# EAGLE library part SF2_M2S010TQ144 (library smf2)
Smart Fusion SoC Dokumente <https://www.microsemi.com/product-directory/soc-fpgas/1692-smartfusion2#documentation> Pin Out TQ144 <https://www.microsemi.com/document-portal/doc_download/133134-smartfusion2-tq144-pinouts>
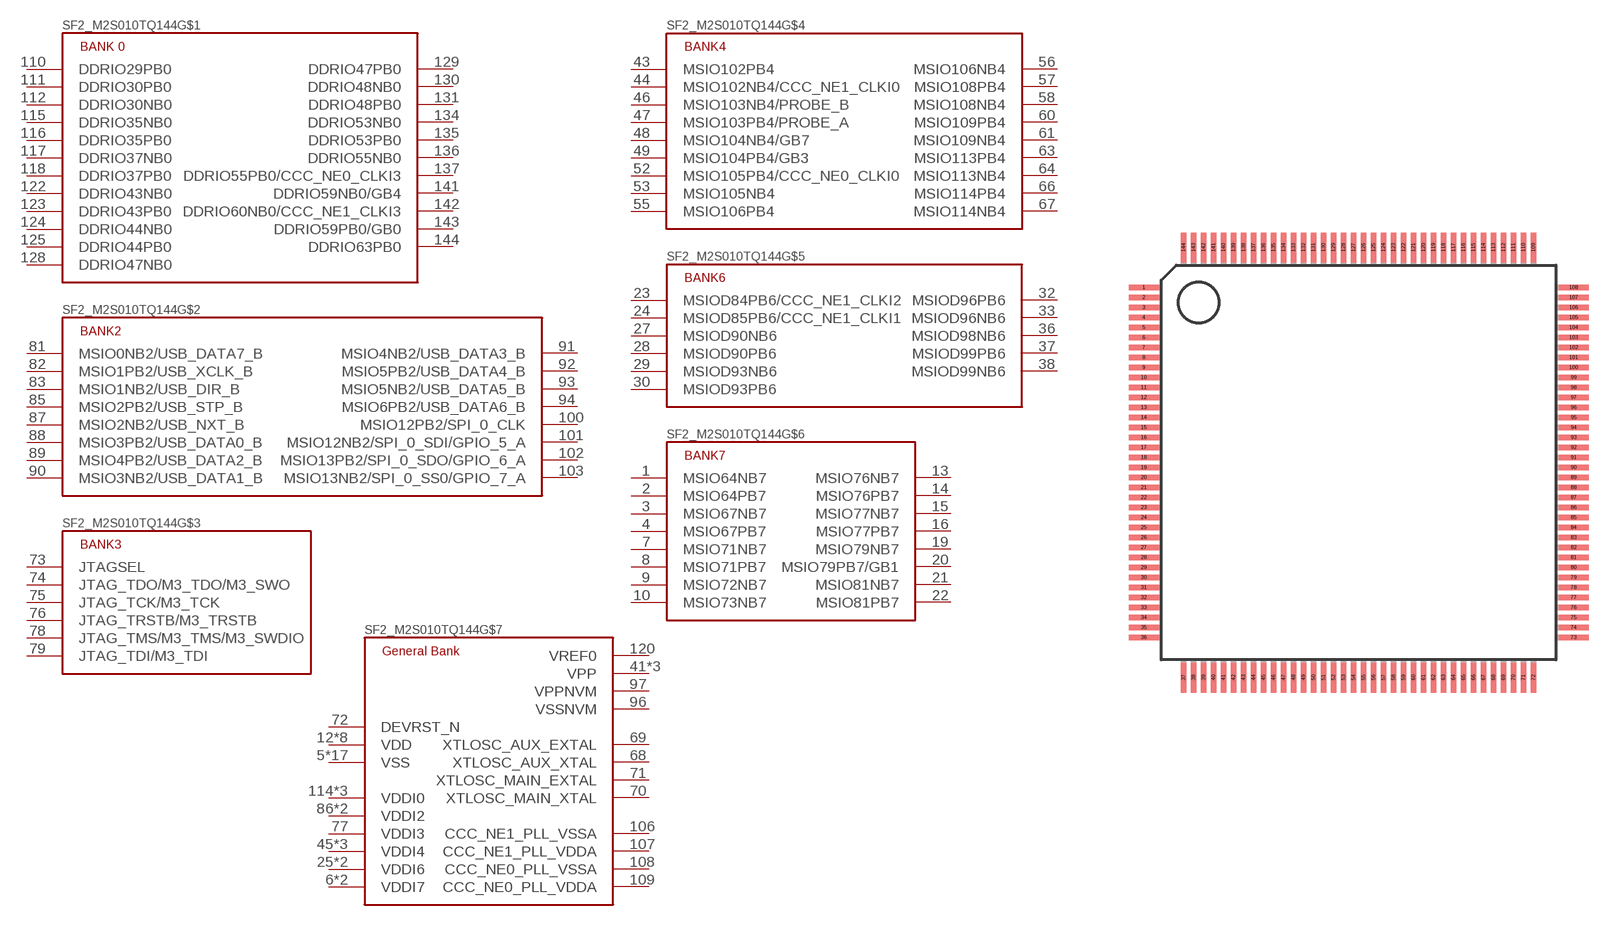
[diagram p3: symbol with the pads of TQFP144; footprint TQFP144]

Designator prefix SF2_M2S010TQ144; gates G$1=SF2_BANK0 G$2=SF2_BANK2 G$3=SF2_BANK3 G$4=SF2_BANK4 G$5=SF2_BANK6 G$6=SF2_BANK7 G$7=SF2_POWER

## SF2_M2S010TQ144  [TQFP144]
1  G$6:MSIO64NB7
2  G$6:MSIO64PB7
3  G$6:MSIO67NB7
4  G$6:MSIO67PB7
5  G$7:VSS
6  G$7:VDDI7
7  G$6:MSIO71NB7
8  G$6:MSIO71PB7
9  G$6:MSIO72NB7
10  G$6:MSIO73NB7
11  G$7:VSS
12  G$7:VDD
13  G$6:MSIO76NB7
14  G$6:MSIO76PB7
15  G$6:MSIO77NB7
16  G$6:MSIO77PB7
17  G$7:VDDI7
18  G$7:VSS
19  G$6:MSIO79NB7
20  G$6:MSIO79PB7/GB1
21  G$6:MSIO81NB7
22  G$6:MSIO81PB7
23  G$5:MSIOD84PB6/CCC_NE1_CLKI2
24  G$5:MSIOD85PB6/CCC_NE1_CLKI1
25  G$7:VDDI6
26  G$7:VSS
27  G$5:MSIOD90NB6
28  G$5:MSIOD90PB6
29  G$5:MSIOD93NB6
30  G$5:MSIOD93PB6
31  G$7:VDD
32  G$5:MSIOD96PB6
33  G$5:MSIOD96NB6
34  G$7:VSS
35  G$7:VDDI6
36  G$5:MSIOD98NB6
37  G$5:MSIOD99PB6
38  G$5:MSIOD99NB6
39  G$7:VDD
40  G$7:VSS
41  G$7:VPP
42  G$7:VSS
43  G$4:MSIO102PB4
44  G$4:MSIO102NB4/CCC_NE1_CLKI0
45  G$7:VDDI4
46  G$4:MSIO103NB4/PROBE_B
47  G$4:MSIO103PB4/PROBE_A
48  G$4:MSIO104NB4/GB7
49  G$4:MSIO104PB4/GB3
50  G$7:VDD
51  G$7:VSS
52  G$4:MSIO105PB4/CCC_NE0_CLKI0
53  G$4:MSIO105NB4
54  G$7:VDDI4
55  G$4:MSIO106PB4
56  G$4:MSIO106NB4
57  G$4:MSIO108PB4
58  G$4:MSIO108NB4
59  G$7:VSS
60  G$4:MSIO109PB4
61  G$4:MSIO109NB4
62  G$7:VDDI4
63  G$4:MSIO113PB4
64  G$4:MSIO113NB4
65  G$7:VSS
66  G$4:MSIO114PB4
67  G$4:MSIO114NB4
68  G$7:XTLOSC_AUX_XTAL
69  G$7:XTLOSC_AUX_EXTAL
70  G$7:XTLOSC_MAIN_XTAL
71  G$7:XTLOSC_MAIN_EXTAL
72  G$7:DEVRST_N
73  G$3:JTAGSEL
74  G$3:JTAG_TDO/M3_TDO/M3_SWO
75  G$3:JTAG_TCK/M3_TCK
76  G$3:JTAG_TRSTB/M3_TRSTB
77  G$7:VDDI3
78  G$3:JTAG_TMS/M3_TMS/M3_SWDIO
79  G$3:JTAG_TDI/M3_TDI
80  G$7:VPP
81  G$2:MSIO0NB2/USB_DATA7_B
82  G$2:MSIO1PB2/USB_XCLK_B
83  G$2:MSIO1NB2/USB_DIR_B
84  G$7:VSS
85  G$2:MSIO2PB2/USB_STP_B
86  G$7:VDDI2
87  G$2:MSIO2NB2/USB_NXT_B
88  G$2:MSIO3PB2/USB_DATA0_B
89  G$2:MSIO4PB2/USB_DATA2_B
90  G$2:MSIO3NB2/USB_DATA1_B
91  G$2:MSIO4NB2/USB_DATA3_B
92  G$2:MSIO5PB2/USB_DATA4_B
93  G$2:MSIO5NB2/USB_DATA5_B
94  G$2:MSIO6PB2/USB_DATA6_B
95  G$7:VDD
96  G$7:VSSNVM
97  G$7:VPPNVM
98  G$7:VSS
99  G$7:VDDI2
100  G$2:MSIO12PB2/SPI_0_CLK
101  G$2:MSIO12NB2/SPI_0_SDI/GPIO_5_A
102  G$2:MSIO13PB2/SPI_0_SDO/GPIO_6_A
103  G$2:MSIO13NB2/SPI_0_SS0/GPIO_7_A
104  G$7:VPP
105  G$7:VDD
106  G$7:CCC_NE1_PLL_VSSA
107  G$7:CCC_NE1_PLL_VDDA
108  G$7:CCC_NE0_PLL_VSSA
109  G$7:CCC_NE0_PLL_VDDA
110  G$1:DDRIO29PB0
111  G$1:DDRIO30PB0
112  G$1:DDRIO30NB0
113  G$7:VSS
114  G$7:VDDI0
115  G$1:DDRIO35NB0
116  G$1:DDRIO35PB0
117  G$1:DDRIO37NB0
118  G$1:DDRIO37PB0
119  G$7:VSS
120  G$7:VREF0
121  G$7:VDD
122  G$1:DDRIO43NB0
123  G$1:DDRIO43PB0
124  G$1:DDRIO44NB0
125  G$1:DDRIO44PB0
126  G$7:VSS
127  G$7:VDDI0
128  G$1:DDRIO47NB0
129  G$1:DDRIO47PB0
130  G$1:DDRIO48NB0
131  G$1:DDRIO48PB0
132  G$7:VSS
133  G$7:VDD
134  G$1:DDRIO53NB0
135  G$1:DDRIO53PB0
136  G$1:DDRIO55NB0
137  G$1:DDRIO55PB0/CCC_NE0_CLKI3
138  G$7:VDDI0
139  G$7:VSS
141  G$1:DDRIO59NB0/GB4
142  G$1:DDRIO60NB0/CCC_NE1_CLKI3
143  G$1:DDRIO59PB0/GB0
144  G$1:DDRIO63PB0

## Footprint TQFP144 (pad centres in mm)
smd 1.5 x 0.27: 1 -10.75,8.75; 2 -10.75,8.25; 3 -10.75,7.75; 4 -10.75,7.25; 5 -10.75,6.75; 6 -10.75,6.25; 7 -10.75,5.75; 8 -10.75,5.25; 9 -10.75,4.75; 10 -10.75,4.25; 11 -10.75,3.75; 12 -10.75,3.25; 13 -10.75,2.75; 14 -10.75,2.25; 15 -10.75,1.75; 16 -10.75,1.25; 17 -10.75,0.75; 18 -10.75,0.25; 19 -10.75,-0.25; 20 -10.75,-0.75; 21 -10.75,-1.25; 22 -10.75,-1.75; 23 -10.75,-2.25; 24 -10.75,-2.75; 25 -10.75,-3.25; 26 -10.75,-3.75; 27 -10.75,-4.25; 28 -10.75,-4.75; 29 -10.75,-5.25; 30 -10.75,-5.75; 31 -10.75,-6.25; 32 -10.75,-6.75; 33 -10.75,-7.25; 34 -10.75,-7.75; 35 -10.75,-8.25; 36 -10.75,-8.75; 73 10.75,-8.75; 74 10.75,-8.25; 75 10.75,-7.75; 76 10.75,-7.25; 77 10.75,-6.75; 78 10.75,-6.25; 79 10.75,-5.75; 80 10.75,-5.25; 81 10.75,-4.75; 82 10.75,-4.25; 83 10.75,-3.75; 84 10.75,-3.25; 85 10.75,-2.75; 86 10.75,-2.25; 87 10.75,-1.75; 88 10.75,-1.25; 89 10.75,-0.75; 90 10.75,-0.25; 91 10.75,0.25; 92 10.75,0.75; 93 10.75,1.25; 94 10.75,1.75; 95 10.75,2.25; 96 10.75,2.75; 97 10.75,3.25; 98 10.75,3.75; 99 10.75,4.25; 100 10.75,4.75; 101 10.75,5.25; 102 10.75,5.75; 103 10.75,6.25; 104 10.75,6.75; 105 10.75,7.25; 106 10.75,7.75; 107 10.75,8.25; 108 10.75,8.75
smd 0.27 x 1.5: 37 -8.75,-10.75; 38 -8.25,-10.75; 39 -7.75,-10.75; 40 -7.25,-10.75; 41 -6.75,-10.75; 42 -6.25,-10.75; 43 -5.75,-10.75; 44 -5.25,-10.75; 45 -4.75,-10.75; 46 -4.25,-10.75; 47 -3.75,-10.75; 48 -3.25,-10.75; 49 -2.75,-10.75; 50 -2.25,-10.75; 51 -1.75,-10.75; 52 -1.25,-10.75; 53 -0.75,-10.75; 54 -0.25,-10.75; 55 0.25,-10.75; 56 0.75,-10.75; 57 1.25,-10.75; 58 1.75,-10.75; 59 2.25,-10.75; 60 2.75,-10.75; 61 3.25,-10.75; 62 3.75,-10.75; 63 4.25,-10.75; 64 4.75,-10.75; 65 5.25,-10.75; 66 5.75,-10.75; 67 6.25,-10.75; 68 6.75,-10.75; 69 7.25,-10.75; 70 7.75,-10.75; 71 8.25,-10.75; 72 8.75,-10.75; 109 8.75,10.75; 110 8.25,10.75; 111 7.75,10.75; 112 7.25,10.75; 113 6.75,10.75; 114 6.25,10.75; 115 5.75,10.75; 116 5.25,10.75; 117 4.75,10.75; 118 4.25,10.75; 119 3.75,10.75; 120 3.25,10.75; 121 2.75,10.75; 122 2.25,10.75; 123 1.75,10.75; 124 1.25,10.75; 125 0.75,10.75; 126 0.25,10.75; 127 -0.25,10.75; 128 -0.75,10.75; 129 -1.25,10.75; 130 -1.75,10.75; 131 -2.25,10.75; 132 -2.75,10.75; 133 -3.25,10.75; 134 -3.75,10.75; 135 -4.25,10.75; 136 -4.75,10.75; 137 -5.25,10.75; 138 -5.75,10.75; 139 -6.25,10.75; 140 -6.75,10.75; 141 -7.25,10.75; 142 -7.75,10.75; 143 -8.25,10.75; 144 -8.75,10.75